# EAGLE library part MCP2551 (library magzor)
high-speed CAN tranceiver
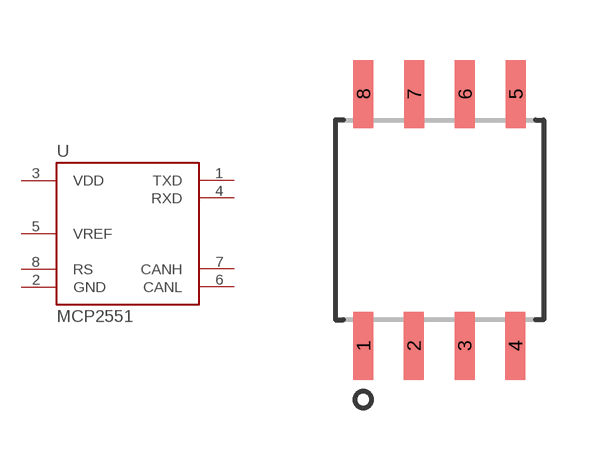
[diagram p6: symbol with the pads of SOIC8; footprint SOIC8]

Designator prefix U

## MCP2551SN  [SOIC8]
1  TXD
2  GND
3  VDD
4  RXD
5  VREF
6  CANL
7  CANH
8  RS

## Footprint SOIC8 (pad centres in mm)
smd 0.5 x 1.7: 1 -1.905,-3.15; 2 -0.645,-3.15; 3 0.625,-3.15; 4 1.895,-3.15; 5 1.905,3.15; 6 0.635,3.15; 7 -0.635,3.15; 8 -1.905,3.15